# Altium schematic symbol library Header 1x4.SchLib: 1 symbol
Pins are listed as number, name and electrical type; pins without a type are passive.

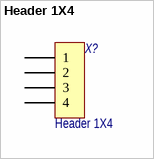
[diagram p0: symbol Header 1X4]

## Header 1X4
designator X?
Header, 4-Pin, Single row; Потребление, Вт: 0,0; Назначение: Header, 4-Pin, Single row; Наименование: Header 1X4
footprint PLS-4 (Footprint not found)
footprint PLS2-4 (Footprint not found)
footprint PBS-4 (2.54mm PIN HEADER R/A)
footprint 47053-001 (3 pin fan connector)
pins: 1, 2, 3, 4